# EAGLE library part NJM2670 (library geoffculp)
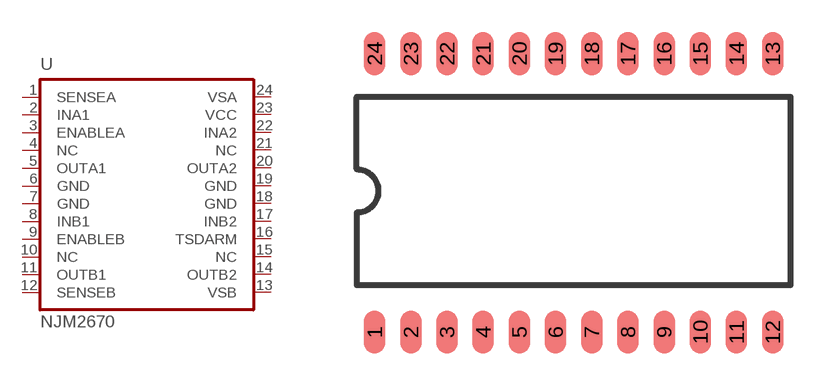
[diagram p83: symbol with the pads of SO-24W; footprint SO-24W]

Designator prefix -

## NJM2670SMD  [SO-24W]
1  SENSEA
2  INA1
3  ENABLEA
4  NC  in
5  OUTA1  pwr
6  GND  pwr
7  GND
8  INB1
9  ENABLEB
10  NC
11  OUTB1
12  SENSEB
13  VSB
14  OUTB2
15  NC
16  TSDARM
17  INB2
18  GND
19  GND  pwr
20  OUTA2  pwr
21  NC
22  INA2
23  VCC
24  VSA

## Footprint SO-24W (pad centres in mm)
smd 0.762 x 1.524: 1 -6.985,-4.953; 2 -5.715,-4.953; 3 -4.445,-4.953; 4 -3.175,-4.953; 5 -1.905,-4.953; 6 -0.635,-4.953; 7 0.635,-4.953; 8 1.905,-4.953; 9 3.175,-4.953; 10 4.445,-4.953; 11 5.715,-4.953; 12 6.985,-4.953; 13 6.985,4.826; 14 5.715,4.826; 15 4.445,4.826; 16 3.175,4.826; 17 1.905,4.826; 18 0.635,4.826; 19 -0.635,4.826; 20 -1.905,4.826; 21 -3.175,4.826; 22 -4.445,4.826; 23 -5.715,4.826; 24 -6.985,4.826